# Altium schematic symbol library IC.SchLib: 42 symbols
Pins are listed as number, name and electrical type; pins without a type are passive.

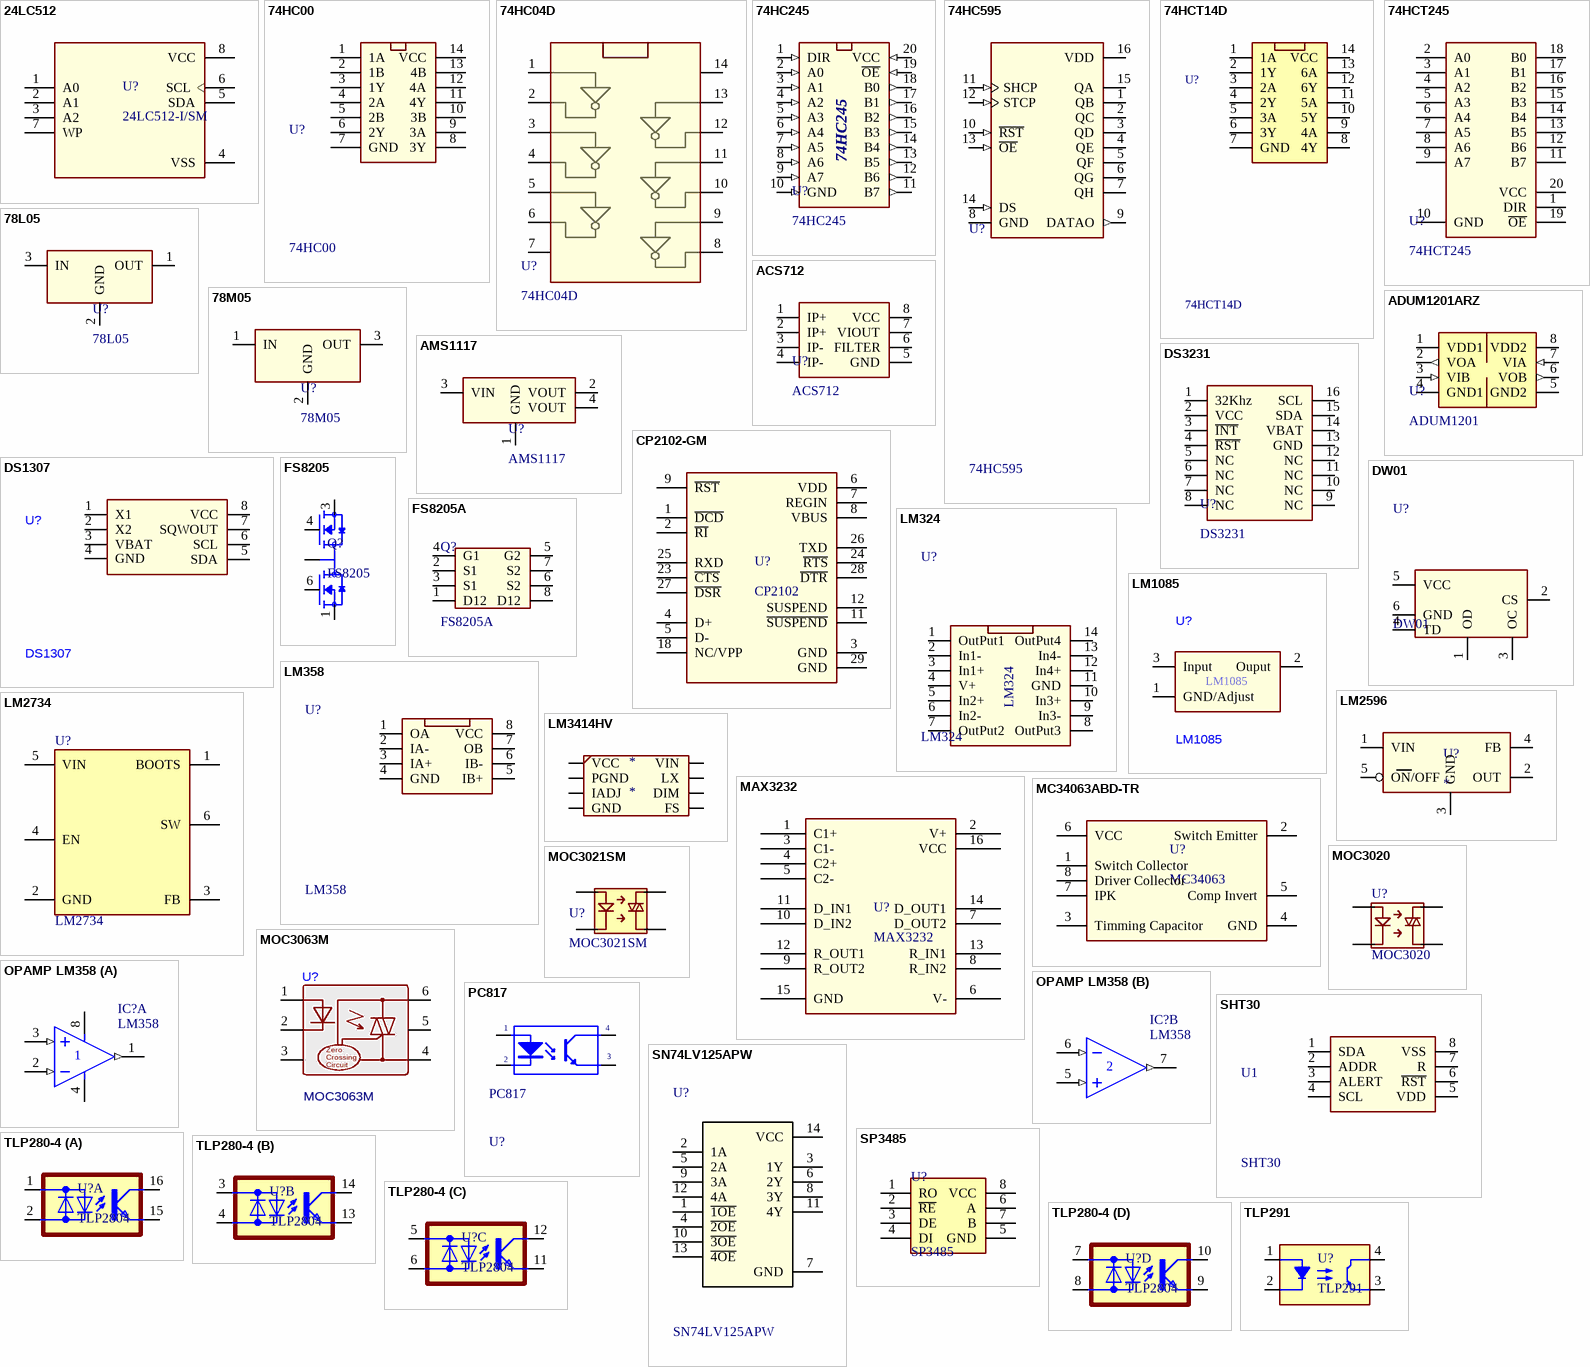
[diagram p0: symbols 24LC512 to TLP291]

## 24LC512
designator U?, comment 24LC512-I/SM
512K, 64K x 8, 2.5V, EEPROM, 8-Lead SOIC | Microchip Technology Inc. 24LC512-I/SM; SnapEDA_Link: https://www.snapeda.com/parts/24LC512-I/SM/Microchip/view-part/?ref=snap; Package: SOIJ-8 Microchip; Value: *; MF: Microchip; MP: 24LC512-I/SM; Check_prices: https://www.snapeda.com/parts/24LC512-I/SM/Microchip/view-part/?ref=eda
footprint SOIC8 (SMD)
pins: 1 A0, 2 A1, 3 A2, 4 VSS (power), 5 SDA, 6 SCL, 7 WP, 8 VCC (power)

## 74HC00
designator U?
SMD; Ten_Linh_Kien: 74HC00D; Don_Vi: Con; Ghi_Chu: *; Kieu_Chan: *; Chung_Loai: SMD
footprint SOIC14 (SMD)
pins: 1 1A, 2 1B, 3 1Y, 4 2A, 5 2B, 6 2Y, 7 GND, 8 3Y, 9 3A, 10 3B, 11 4Y, 12 4A, 13 4B, 14 VCC

## 74HC04D
designator U?
Hex Inverter, SOIC14; Manufacturer_Name: Toshiba Electronic Devices & Storage Corp.; Manufacturer_Part_Number: 74HC04D; RefDes: RefDes; Type: Type
footprint SOIC14 (SMD)
pins: 1, 2, 3, 4, 5, 6, 7 (power), 8, 9, 10, 11, 12, 13, 14 (power)

## 74HC245
designator U?
SMD; Ten_Linh_Kien: 74HC245D; Don_Vi: Con; Chung_Loai: Dán; Ghi_Chu: *; Kieu_Chan: *
footprint SOIC_20N (74HC245, 74HCT245)
pins: 1 DIR (in), 2 A0 (in), 3 A1 (in), 4 A2 (in), 5 A3 (in), 6 A4 (in), 7 A5 (in), 8 A6 (in), 9 A7 (in), 10 GND (in), 11 B7 (out), 12 B6 (out), 13 B5 (out), 14 B4 (out), 15 B3 (out), 16 B2 (out), 17 B1 (out), 18 B0 (out), 19 ~{OE} (in), 20 VCC (in)

## 74HC595
designator U?
SMD; Ten_Linh_Kien: 74HC595D; Don_Vi: Con; Chung_Loai: Dán; Ghi_Chu: *; Kieu_Chan: *
footprint SOIC16 (74HCxxx)
pins: 1 QB (hiz), 2 QC (hiz), 3 QD (hiz), 4 QE (hiz), 5 QF (hiz), 6 QG (hiz), 7 QH (hiz), 8 GND (power), 9 DATAO (out), 10 ~{RST} (in), 11 SHCP (in), 12 STCP (in), 13 ~{OE} (in), 14 DS (in), 15 QA (hiz), 16 VDD (power)

## 74HCT14D
designator U?
SMD
footprint SOIC14 (SMD)
pins: 1 1A, 2 1Y, 3 2A, 4 2Y, 5 3A, 6 3Y, 7 GND, 8 4Y, 9 4A, 10 5Y, 11 5A, 12 6Y, 13 6A, 14 VCC

## 74HCT245
designator U?
Transceiver, Non-Inverting 1 Element 8 Bit per Element 3-State Output 20-SOIC; MF: Toshiba; MP: 74HCT245D; SnapEDA_Link: https://www.snapeda.com/parts/74HCT245D/Toshiba/view-part/?ref=snap; Package: SO-20 NXP Semiconductors; Value: *; Check_prices: https://www.snapeda.com/parts/74HCT245D/Toshiba/view-part/?ref=eda
footprint SOIC_20N (74HC245, 74HCT245)
pins: 1 DIR, 2 A0, 3 A1, 4 A2, 5 A3, 6 A4, 7 A5, 8 A6, 9 A7, 10 GND, 11 B7, 12 B6, 13 B5, 14 B4, 15 B3, 16 B2, 17 B1, 18 B0, 19 ~{OE}, 20 VCC (power)

## 78L05
designator U?
SMD; Don_Vi: Con; Chung_Loai: Dán; Ten_Linh_Kien: 78L05; Ghi_Chu: *; Kieu_Chan: *
footprint SOT89
pins: 1 OUT, 2 GND, 3 IN

## 78M05
designator U?
SMD, Through hole; Don_Vi: Con; Chung_Loai: Dán; Ten_Linh_Kien: 78M05; Ghi_Chu: *; Kieu_Chan: *
footprint DPAK
footprint TO220
footprint D2PAK (SMD)
pins: 1 IN, 2 GND, 3 OUT

## ACS712
designator U?
ACS712 Hall Effect-Based Linear Current Sensor
footprint SOIC8 (SMD)
pins: 1 IP+, 2 IP+, 3 IP-, 4 IP-, 5 GND, 6 FILTER, 7 VIOUT, 8 VCC

## ADUM1201ARZ
designator U?, comment ADUM1201
Digital Isolator CMOS 2-CH 1Mbps 8-Pin SOIC N Tube; MF: Analog Devices; MP: ADUM1201ARZ .; SnapEDA_Link: https://www.snapeda.com/parts/ADUM1201ARZ%20./Analog+Devices/view-part/?ref=snap; Package: None; Value: *; Check_prices: https://www.snapeda.com/parts/ADUM1201ARZ%20./Analog+Devices/view-part/?ref=eda
footprint SOIC8 (SMD)
pins: 1 VDD1 (power), 2 VOA (out), 3 VIB (in), 4 GND1, 5 GND2, 6 VOB (out), 7 VIA (in), 8 VDD2 (power)

## AMS1117
designator U?
SMD; Don_Vi: Con; Value: AMS1117; Ghi_Chu: *; Kieu_Chan: *; Chung_Loai: SMD
footprint SOT 223 (SMD)
pins: 1 GND, 2 VOUT, 3 VIN, 4 VOUT

## CP2102-GM
designator U?, comment CP2102
USB Bridge, USB to UART USB 2.0 UART Interface 28-QFN (5x5); MF: Silicon Labs; MP: CP2102-GM; SnapEDA_Link: https://www.snapeda.com/parts/CP2102-GM/Silicon+Labs/view-part/?ref=snap; Package: QFN-28 Silicon Labs; Value: *; Check_prices: https://www.snapeda.com/parts/CP2102-GM/Silicon+Labs/view-part/?ref=eda
footprint QFN_28N (QFN50P500X500X100-29N)
pins: 1 ~{DCD}, 2 ~{RI}, 3 GND, 4 D+, 5 D-, 6 VDD, 7 REGIN, 8 VBUS, 9 ~{RST}, 11 ~{SUSPEND}, 12 SUSPEND, 18 NC/VPP, 23 ~{CTS}, 24 ~{RTS}, 25 RXD, 26 TXD, 27 ~{DSR}, 28 ~{DTR}, 29 GND

## DS1307
designator U?
SMD
footprint SOIC8 (SMD)
pins: 1 X1, 2 X2, 3 VBAT, 4 GND, 5 SDA, 6 SCL, 7 SQWOUT, 8 VCC

## DS3231
designator U?
SMD
footprint SOIC 16 DS3231 (SOIC, 16-Leads, Body 10.30x7.50mm, Pitch 1.27mm, IPC Medium Density)
pins: 1 32Khz (power), 2 VCC (power), 3 ~{INT} (power), 4 ~{RST} (power), 5 NC (power), 6 NC (power), 7 NC (power), 8 NC (power), 9 NC (power), 10 NC (power), 11 NC (power), 12 NC (power), 13 GND (power), 14 VBAT (power), 15 SDA (power), 16 SCL (power)

## DW01
designator U?
SMD
footprint SOT 23_6 (SMD)
pins: 1 OD, 2 CS, 3 OC, 4 TD, 5 VCC, 6 GND

## FS8205
designator Q?
SMD; MF: Fortune Semiconductor; SnapEDA_Link: https://www.snapeda.com/parts/FS8205/Fortune+Semiconductor/view-part/?ref=snap; Package: Package; Value: *; MP: FS8205; Check_prices: https://www.snapeda.com/parts/FS8205/Fortune+Semiconductor/view-part/?ref=eda
footprint SOT 23_6 (SMD)
pins: 1 S1, 2 D12, 3 S2, 4 G2, 5 D12, 6 G1

## FS8205A
designator Q?
SMD
footprint SOP8N_FS8205 (MOSFET)
pins: 1 D12, 2 S1, 3 S1, 4 G1, 5 G2, 6 S2, 7 S2, 8 D12

## LM324
designator U?
SMD; Ten_Linh_Kien: LM324 SOP14; Ma_Hang: MH002173; Don_Vi: Con; Chung_Loai: Dán; Kieu_Chan: *; Ghi_Chu: *
footprint SOIC14 (SMD)
pins: 1 OutPut1, 2 In1-, 3 In1+, 4 V+, 5 In2+, 6 In2-, 7 OutPut2, 8 OutPut3, 9 In3-, 10 In3+, 11 GND, 12 In4+, 13 In4-, 14 OutPut4

## LM358
designator U?
SMD; Ten_Linh_Kien: LM358 SOP8; Ma_Hang: MH000609; Don_Vi: Con; Chung_Loai: Dán; Kieu_Chan: *; Ghi_Chu: *
footprint SOIC8 (SMD)
pins: 1 OA, 2 IA-, 3 IA+, 4 GND, 5 IB+, 6 IB-, 7 OB, 8 VCC

## LM1085
designator U?
SMD
footprint DPAK
pins: 1 GND/Adjust, 2 Ouput, 3 Input

## LM2596
designator U?
SMD
footprint TO-263-5 LM2596 (SMD)
pins: 1 VIN, 2 OUT, 3 GND, 4 FB, 5 ON/OFF

## LM2734
designator U?
Step-Down DC-DC Regulator
footprint SOT 23_6 (SMD)
pins: 1 BOOTS, 2 GND, 3 FB, 4 EN, 5 VIN, 6 SW

## LM3414HV
designator *
ComponentLink1Description: DATASHEET; ComponentLink1URL: https://www.ti.com/lit/ds/symlink/lm3414hv.pdf?ts=1791622566344&ref_url=https%253A%252F%252Fwww.ti.com%252Fproduct%252FLM3414HV
footprint SOIC 8_PAD (SMD)
pins: 1 VCC, 2 PGND, 3 IADJ, 4 GND, 5 FS, 6 DIM, 7 LX, 8 VIN

## MAX3232
designator U?
RS232, MAX3232CDR Line Transceiver, 16-SOIC; ComponentLink1Description: New link; ComponentLink1URL: https://www.thegioiic.com/max3232cdr-line-transceiver-16-soic
footprint SOIC16 (74HCxxx)
pins: 1 C1+, 2 V+, 3 C1-, 4 C2+, 5 C2-, 6 V-, 7 D_OUT2, 8 R_IN2, 9 R_OUT2, 10 D_IN2, 11 D_IN1, 12 R_OUT1, 13 R_IN1, 14 D_OUT1, 15 GND, 16 VCC

## MC34063ABD-TR
designator U?, comment MC34063
Buck, Boost Switching Regulator IC Positive or Negative Adjustable 1.25V 1 Output 1.5A (Switch) 8-SOIC (0.154, 3.90mm Width); MF: STMicroelectronics; MP: MC34063ABD-TR; SnapEDA_Link: https://www.snapeda.com/parts/MC34063ABD-TR/STMicroelectronics/view-part/?ref=snap; Package: None; Value: *; Check_prices: https://www.snapeda.com/parts/MC34063ABD-TR/STMicroelectronics/view-part/?ref=eda
footprint SOIC8 (SMD)
pins: 1 Switch Collector, 2 Switch Emitter, 3 Timming Capacitor, 4 GND, 5 Comp Invert, 6 VCC (power), 7 IPK, 8 Driver Collector

## MOC3020
designator U?
DIP
footprint DIP6 (6 PIN, W 300mil, Pin to pin 100mil)
pins: 1, 2, 3 hidden, 4, 5 hidden, 6

## MOC3021SM
designator U?
SMD, DIP
footprint DIP6 (6 PIN, W 300mil, Pin to pin 100mil)
footprint DIP6_SMD (6 PIN, W 300mil, Pin to pin 100mil)
pins: 1, 2, 4, 6

## MOC3063M
designator U?
SMD, DIP
footprint DIP6 (6 PIN, W 300mil, Pin to pin 100mil)
footprint DIP6_SMD (6 PIN, W 300mil, Pin to pin 100mil)
pins: 1 A, 2 K, 3 NC, 4 MT, 5 NC, 6 MT
text: Zero / Crossing / Circuit

## OPAMP LM358
designator IC?, comment LM358
SMD; Value: LM358
footprint SOIC8 (SMD)
part A pins: 1 OUT (out), 2 IN- (in), 3 IN+ (in), 4 V- (power), 8 V+ (power)
part B pins: 5 IN+ (in), 6 IN- (in), 7 OUT (out)

## PC817
designator U?
Single Opto; Value: PC817
footprint SOP4
pins: 1 A "Anode", 2 K "Cathode", 3 E "Emitter", 4 C "Collector"

## SHT30
designator U1
Humidity and Temperature Sensor I2C
footprint DFN_8_PAD (SHT3X)
pins: 1 SDA, 2 ADDR, 3 ALERT, 4 SCL, 5 VDD, 6 ~{RST}, 7 R, 8 VSS, 9 GND

## SN74LV125APW
designator U?
SMD; SnapEDA_Link: https://www.snapeda.com/parts/SN74LV125APW/Texas+Instruments/view-part/?ref=snap; Check_prices: https://www.snapeda.com/parts/SN74LV125APW/Texas+Instruments/view-part/?ref=eda; Value: *
footprint SOP_14N (SMD)
pins: 1 ~{1OE}, 2 1A, 3 1Y, 4 ~{2OE}, 5 2A, 6 2Y, 7 GND (power), 8 3Y, 9 3A, 10 ~{3OE}, 11 4Y, 12 4A, 13 ~{4OE}, 14 VCC

## SP3485
designator U?
RS485, SMD
footprint SOIC8 (SMD)
pins: 1 RO, 2 ~{RE}, 3 DE, 4 DI, 5 GND, 6 A, 7 B, 8 VCC

## TLP280-4
designator U?, comment TLP2804
Optoisolator Transistor Output 2500Vrms 4 Channel 16-SOP; MF: Toshiba Semiconductor; MP: TLP 280-4; SnapEDA_Link: https://www.snapeda.com/parts/TLP%20280-4/Toshiba/view-part/?ref=snap; Package: SOP-16 Toshiba; Value: *; Check_prices: https://www.snapeda.com/parts/TLP%20280-4/Toshiba/view-part/?ref=eda
footprint SOP16_TLP2xx
part A pins: 1 AC1, 2 AC2, 15 E, 16 C
part B pins: 3 AC1, 4 AC2, 13 E, 14 C
part C pins: 5 AC1, 6 AC2, 11 E, 12 C
part D pins: 7 AC1, 8 AC2, 9 E, 10 C

## TLP291
designator U?
Optoisolator Transistor Output 3750Vrms 1 Channel 4-SO; MF: Toshiba Semiconductor and Storage; MP: TLP291(GB-TP,SE; Purchase-URL: https://pricing.snapeda.com/search/part/TLP291(GB-TP,SE/?ref=eda; Check_prices: https://www.snapeda.com/parts/TLP291(GB-TP,SE/Toshiba+Semiconductor+and+Storage/view-part/?ref=eda; Price: None; Availability: In Stock; SnapEDA_Link: https://www.snapeda.com/parts/TLP291(GB-TP,SE/Toshiba+Semiconductor+and+Storage/view-part/?ref=snap; Package: SO-4 Toshiba Semiconductor; Value: *
footprint SOIC_4N_TLP2xx
pins: 1 A, 2 C, 3 EMIT, 4 COL

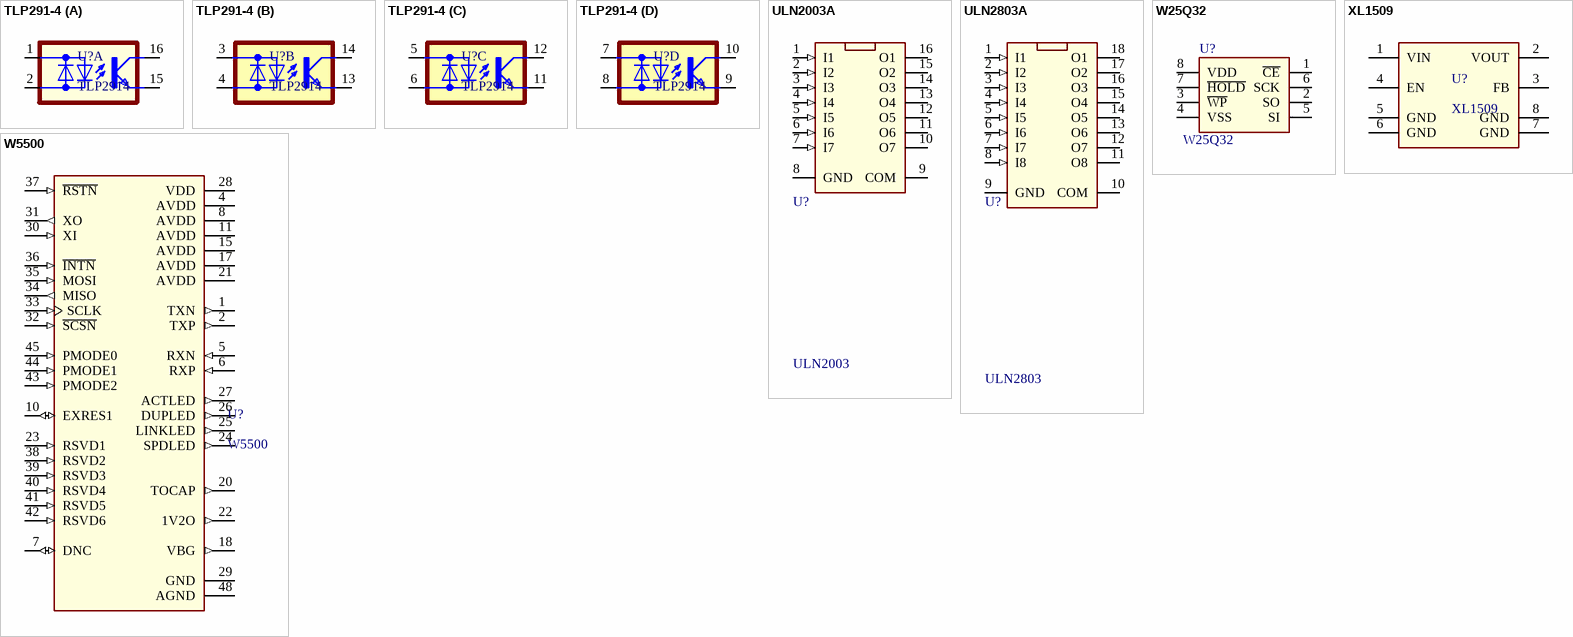
[diagram p1: symbols TLP291-4 to XL1509]

## TLP291-4
designator U?, comment TLP2914
Optoisolator Transistor Output 2500Vrms 4 Channel 16-SOP; MF: Toshiba Semiconductor; MP: TLP 291-4; Package: SOP-16 Toshiba; Value: *
footprint SOP16_TLP2xx
part A pins: 1 AC1, 2 AC2, 15 E, 16 C
part B pins: 3 AC1, 4 AC2, 13 E, 14 C
part C pins: 5 AC1, 6 AC2, 11 E, 12 C
part D pins: 7 AC1, 8 AC2, 9 E, 10 C

## ULN2003A
designator U?, comment ULN2003
SMD; Ten_Linh_Kien: ULN2003 SOP16; Don_Vi: Con; Ma_Hang: MH002408; Chung_Loai: Dán; Ghi_Chu: *; Kieu_Chan: *
footprint SOIC16 (74HCxxx)
pins: 1 I1 (in), 2 I2 (in), 3 I3 (in), 4 I4 (in), 5 I5 (in), 6 I6 (in), 7 I7 (in), 8 GND (power), 9 COM, 10 O7 (oc), 11 O6 (oc), 12 O5 (oc), 13 O4 (oc), 14 O3 (oc), 15 O2 (oc), 16 O1 (oc)

## ULN2803A
designator U?, comment ULN2803
SMD, DIP; Ten_Linh_Kien: ULN2803AG SOP18; Ma_Hang: MH002406; Chung_Loai: Dán; Don_Vi: Con; Ghi_Chu: *; Kieu_Chan: *
footprint SOP 18 (SOIC, 18-Leads, Body 11.50x7.50mm, Pitch 1.27mm, IPC Medium Density)
footprint DIP18
pins: 1 I1 (in), 2 I2 (in), 3 I3 (in), 4 I4 (in), 5 I5 (in), 6 I6 (in), 7 I7 (in), 8 I8 (in), 9 GND (power), 10 COM, 11 O8 (oc), 12 O7 (oc), 13 O6 (oc), 14 O5 (oc), 15 O4 (oc), 16 O3 (oc), 17 O2 (oc), 18 O1 (oc)

## W25Q32
designator U?
SMD
footprint SOP 8 (SMD)
pins: 1 ~{CE}, 2 SO, 3 ~{WP}, 4 VSS, 5 SI, 6 SCK, 7 ~{HOLD}, 8 VDD

## W5500
designator U?
Hardwired TCP/IP embedded Ethernet controller; Availability: Unavailable; MP: W5500; Value: *; Price: None; Package: None
footprint LQPF48 (LQPF48, 48 Leads, pitch 0.5mm)
pins: 1 TXN (out), 2 TXP (out), 3 AGND (power), 4 AVDD (power), 5 RXN (in), 6 RXP (in), 7 DNC (io), 8 AVDD (power), 9 AGND (power), 10 EXRES1 (io), 11 AVDD (power), 14 AGND (power), 15 AVDD (power), 16 AGND (power), 17 AVDD (power), 18 VBG (out), 19 AGND (power), 20 TOCAP (out), 21 AVDD (power), 22 1V2O (out), 23 RSVD1 (in), 24 SPDLED (out), 25 LINKLED (out), 26 DUPLED (out), 27 ACTLED (out), 28 VDD (power), 29 GND, 30 XI (in), 31 XO (out), 32 ~{SCSN} (in), 33 SCLK (in), 34 MISO (out), 35 MOSI (in), 36 ~{INTN} (in), 37 ~{RSTN} (in), 38 RSVD2 (in), 39 RSVD3 (in), 40 RSVD4 (in), 41 RSVD5 (in), 42 RSVD6 (in), 43 PMODE2 (in), 44 PMODE1 (in), 45 PMODE0 (in), 48 AGND (power)

## XL1509
designator U?
2A 150KHz 40V Buck DC to DC Converter
footprint SOIC8 (SMD)
pins: 1 VIN, 2 VOUT, 3 FB, 4 EN, 5 GND, 6 GND (power), 7 GND, 8 GND